# Altium schematic symbol library GRM033R60J105MEA2D.SchLib: 1 symbol
Pins are listed as number, name and electrical type; pins without a type are passive.

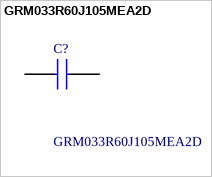
[diagram p0: symbol GRM033R60J105MEA2D]

## GRM033R60J105MEA2D
designator C?
Capacitor MLCC GRM 0201 1uF 6.3V X5R Murata 0201 GRM 1uF Ceramic Multilayer Capacitor, 6.3 V, +85C, X5R Dielectric, +/-20% SMD; Manufacturer_Name: Murata Electronics; Geometry.Height: 0.33mm; Manufacturer_Part_Number: GRM033R60J105MEA2D; Mouser Part Number: 81-GRM033R60J105ME2D; Mouser Price/Stock: https://www.mouser.co.uk/ProductDetail/Murata-Electronics/GRM033R60J105MEA2D?qs=07yfQVYDK7uCNboOI%2Fj8pQ%3D%3D; Arrow Part Number: GRM033R60J105MEA2D; Arrow Price/Stock: https://www.arrow.com/en/products/grm033r60j105mea2d/murata-manufacturing?region=nac; Datasheet Link: https://search.murata.co.jp/Ceramy/image/img/A01X/G101/ENG/GRM033R60J105MEA2-61A.pdf
footprint GRM033D70J224ME01D
pins: 1, 2